# EAGLE library part AEM10941 (library PowerMgmt_EPeas)
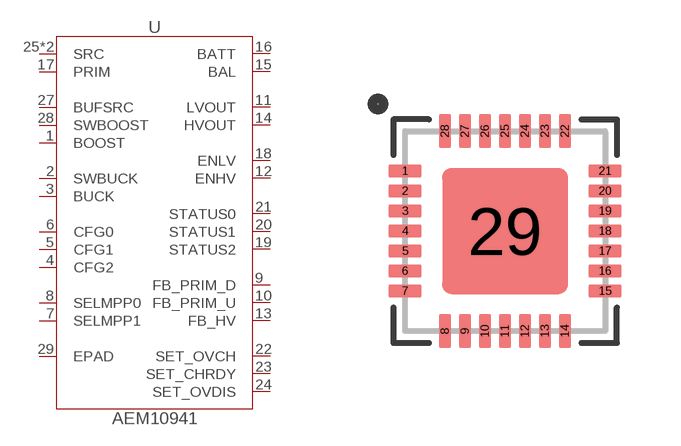
[diagram p0: symbol with the pads of QFN-28_EPAD; footprint QFN-28_EPAD]

Designator prefix U

## AEM10941  [QFN-28_EPAD]
1  BOOST  pas
2  SWBUCK  pas
3  BUCK  pas
4  CFG2  in
5  CFG1  in
6  CFG0  in
7  SELMPP1  in
8  SELMPP0  in
9  FB_PRIM_D  in
10  FB_PRIM_U  in
11  LVOUT  pas
12  ENHV  in
13  FB_HV  in
14  HVOUT  pas
15  BAL  pwr
16  BATT  pwr
17  PRIM  pwr
18  ENLV  in
19  STATUS2  out
20  STATUS1  out
21  STATUS0  out
22  SET_OVCH  in
23  SET_CHRDY  in
24  SET_OVDIS  in
25  SRC  pwr
26  SRC  pwr
27  BUFSRC  pas
28  SWBOOST  pas
29  EPAD  pwr

## Footprint QFN-28_EPAD (pad centres in mm)
smd 0.825 x 0.3: 1 -2.5,1.5; 2 -2.5,1; 3 -2.5,0.5; 4 -2.5,0; 5 -2.5,-0.5; 6 -2.5,-1; 7 -2.5,-1.5; 15 2.5,-1.5; 16 2.5,-1; 17 2.5,-0.5; 18 2.5,0; 19 2.5,0.5; 20 2.5,1; 21 2.5,1.5
smd 0.3 x 0.825: 8 -1.5,-2.5; 9 -1,-2.5; 10 -0.5,-2.5; 11 0,-2.5; 12 0.5,-2.5; 13 1,-2.5; 14 1.5,-2.5; 22 1.5,2.5; 23 1,2.5; 24 0.5,2.5; 25 0,2.5; 26 -0.5,2.5; 27 -1,2.5; 28 -1.5,2.5
smd 3.15 x 3.15: 29 0,0